# EAGLE library part TPS61090 (library TPS61090)
TPS6109x Synchronous Boost Converter With 2-A Switch
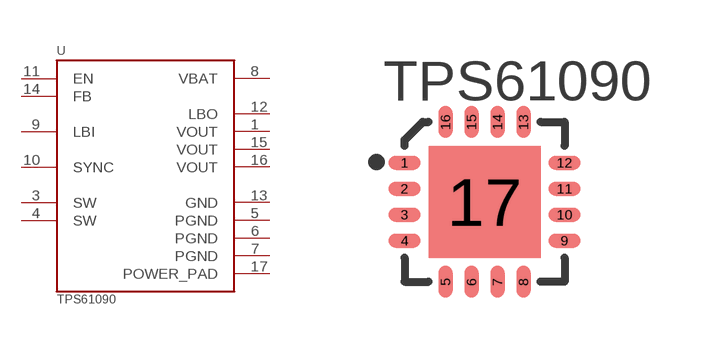
[diagram p0: symbol with the pads of QFN65P400X400X100-17N; footprint QFN65P400X400X100-17N]

Designator prefix U

## TPS61090 (AVAILABILITY: Unavailable; DESCRIPTION: the tps6109x devices provide a power supply solution for products powered by either a one-cell li-ion or li-polymer o...; MF: Texas Instruments; MP: TPS61090; PACKAGE: QFN-16 Texas Instruments; PRICE: None)  [QFN65P400X400X100-17N]
1  VOUT  out
3  SW  in
4  SW  in
5  PGND  pwr
6  PGND  pwr
7  PGND  pwr
8  VBAT  pwr
9  LBI  in
10  SYNC  in
11  EN  in
12  LBO  out
13  GND  pwr
14  FB  in
15  VOUT  out
16  VOUT  out
17  POWER_PAD  pwr

## Footprint QFN65P400X400X100-17N (pad centres in mm)
smd 0.8 x 0.35: 1 -2,0.975; 2 -2,0.325; 3 -2,-0.325; 4 -2,-0.975; 9 2,-0.975; 10 2,-0.325; 11 2,0.325; 12 2,0.975
smd 0.35 x 0.8: 5 -0.975,-2; 6 -0.325,-2; 7 0.325,-2; 8 0.975,-2; 13 0.975,2; 14 0.325,2; 15 -0.325,2; 16 -0.975,2
smd 2.8 x 2.8: 17 0,0